# EAGLE library part SD_MMC_CARD (library GW-devices)
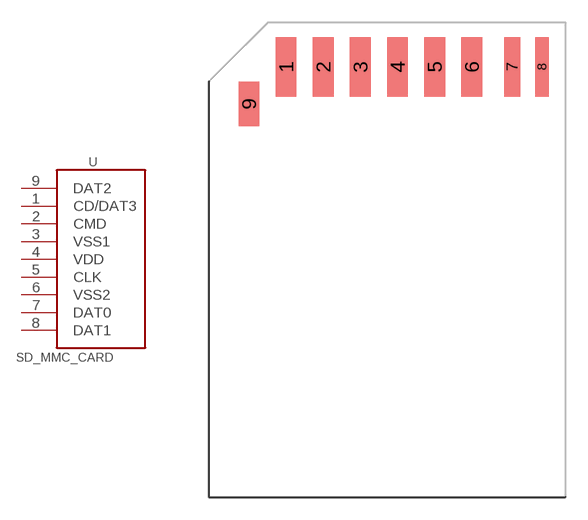
[diagram p30: symbol with the pads of SD-MMC-CARD; footprint SD-MMC-CARD]

Designator prefix -

## SD_MMC_CARDSD_PCB  [SD-MMC-CARD]
1  CD/DAT3
2  CMD
3  VSS1
4  VDD
5  CLK
6  VSS2
7  DAT0
8  DAT1
9  DAT2

## Footprint SD-MMC-CARD (pad centres in mm)
smd 1.4 x 4: 1 -6.8,13; 2 -4.3,13; 3 -1.8,13; 4 0.7,13; 5 3.2,13; 6 5.7,13
smd 1.1 x 4: 7 8.43,13
smd 0.9 x 4: 8 10.43,13
smd 1.4 x 3: 9 -9.3,10.5